# EAGLE library part ICL7673CBAZA-T (library harp timestamp generator)
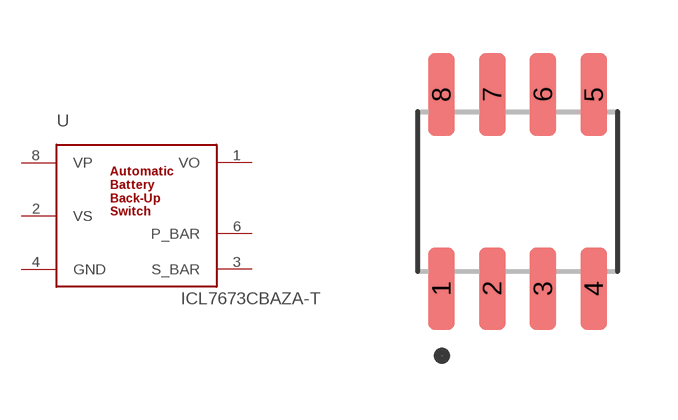
[diagram p7: symbol with the pads of SOIC8; footprint SOIC8]

Designator prefix U

## ICL7673CBAZA-T  [SOIC8]
1  VO
2  VS
3  S_BAR
4  GND
5  NC5
6  P_BAR
7  NC7
8  VP

## Footprint SOIC8 (pad centres in mm)
Small Outline IC (SOIC), 1.27 mm pitch; 8 pin, 4.90 mm L X 3.90 mm W X 1.75 mm H body PCB Libraries Packages
smd 0.67 x 2.07: 1 -1.905,-2.425; 2 -0.635,-2.425; 3 0.635,-2.425; 4 1.905,-2.425; 5 1.905,2.425; 6 0.635,2.425; 7 -0.635,2.425; 8 -1.905,2.425